# Altium footprint library SnapEDApcb.PcbLib: 1 footprints
Each footprint in its own frame and in the unit in brackets; x right, y up, seen from the top. Pads: shape width x height; smd on the part's side, far side on the other; paste and mask are expansions set on the pad; w line width, h text height; cw(c..) or ccw(c..) is an arc to the next point about the centre after c.
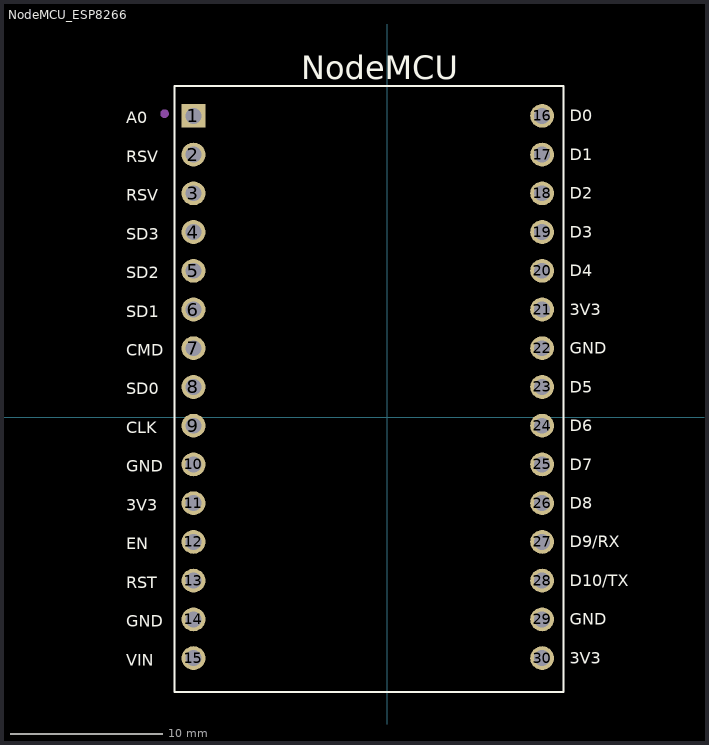
[diagram p0: the footprint, top view; thin cyan lines are the x and y axes]

## NodeMCU_ESP8266 [mm]
pads (30):
  rect 1.56x1.56 hole 1.04: 1(-12.7,19.76)
  round 1.56 hole 1.04: 2(-12.7,17.22) 3(-12.7,14.68) 4(-12.7,12.14) 5(-12.7,9.6) 6(-12.7,7.06) 7(-12.7,4.52) 8(-12.7,1.98) 9(-12.7,-0.56) 10(-12.7,-3.1) 11(-12.7,-5.64) 12(-12.7,-8.18) 13(-12.7,-10.72) 14(-12.7,-13.26) 15(-12.7,-15.8) 16(10.16,19.76) 17(10.16,17.22) 18(10.16,14.68) 19(10.16,12.14) 20(10.16,9.6) 21(10.16,7.06) 22(10.16,4.52) 23(10.16,1.98) 24(10.16,-0.56) 25(10.16,-3.1) 26(10.16,-5.64) 27(10.16,-8.18) 28(10.16,-10.72) 29(10.16,-13.26) 30(10.16,-15.8)
Top Overlay:
  lines w0.127: -13.95,-18.034 -13.95,21.717 11.557,21.717 11.557,-18.034 -13.95,-18.034
  text "D0" at 11.986,19.395 h0.76
  text "D1" at 11.986,16.855 h0.76
  text "D2" at 11.986,14.315 h0.76
  text "D3" at 11.986,11.775 h0.76
  text "D4" at 11.986,9.235 h0.76
  text "3V3" at 11.986,6.695 h0.76
  text "GND" at 11.986,4.155 h0.76
  text "D5" at 11.986,1.615 h0.76
  text "D6" at 11.986,-0.925 h0.76
  text "D7" at 11.986,-3.465 h0.76
  text "D8" at 11.986,-6.005 h0.76
  text "D9/RX" at 11.986,-8.545 h0.76
  text "D10/TX" at 11.986,-11.085 h0.76
  text "GND" at 11.986,-13.625 h0.76
  text "3V3" at 11.986,-16.165 h0.76
  text "A0" at -17.097,19.268 h0.76
  text "RSV" at -17.097,16.728 h0.76
  text "RSV" at -17.097,14.188 h0.76
  text "SD3" at -17.097,11.648 h0.76
  text "SD2" at -17.097,9.108 h0.76
  text "SD1" at -17.097,6.568 h0.76
  text "CMD" at -17.097,4.028 h0.76
  text "SD0" at -17.097,1.488 h0.76
  text "CLK" at -17.097,-1.052 h0.76
  text "GND" at -17.097,-3.592 h0.76
  text "3V3" at -17.097,-6.132 h0.76
  text "EN" at -17.097,-8.672 h0.76
  text "RST" at -17.097,-11.212 h0.76
  text "GND" at -17.097,-13.752 h0.76
  text "VIN" at -17.097,-16.292 h0.76
  text "NodeMCU" at -5.642,22.171 h1.52
Mechanical 13:
  circle w0.28: c-14.6,19.9 r0.14
Mechanical 15:
  lines w0.05: -9.93,21.741 -9.905,21.717 -4.596,21.717 4.596,21.717 9.446,21.717 9.47,21.741